# EAGLE library part XC3SE-FT256 (library Xilinx)
Xilinx Spartan3E FPGA in an FT256 pacakge
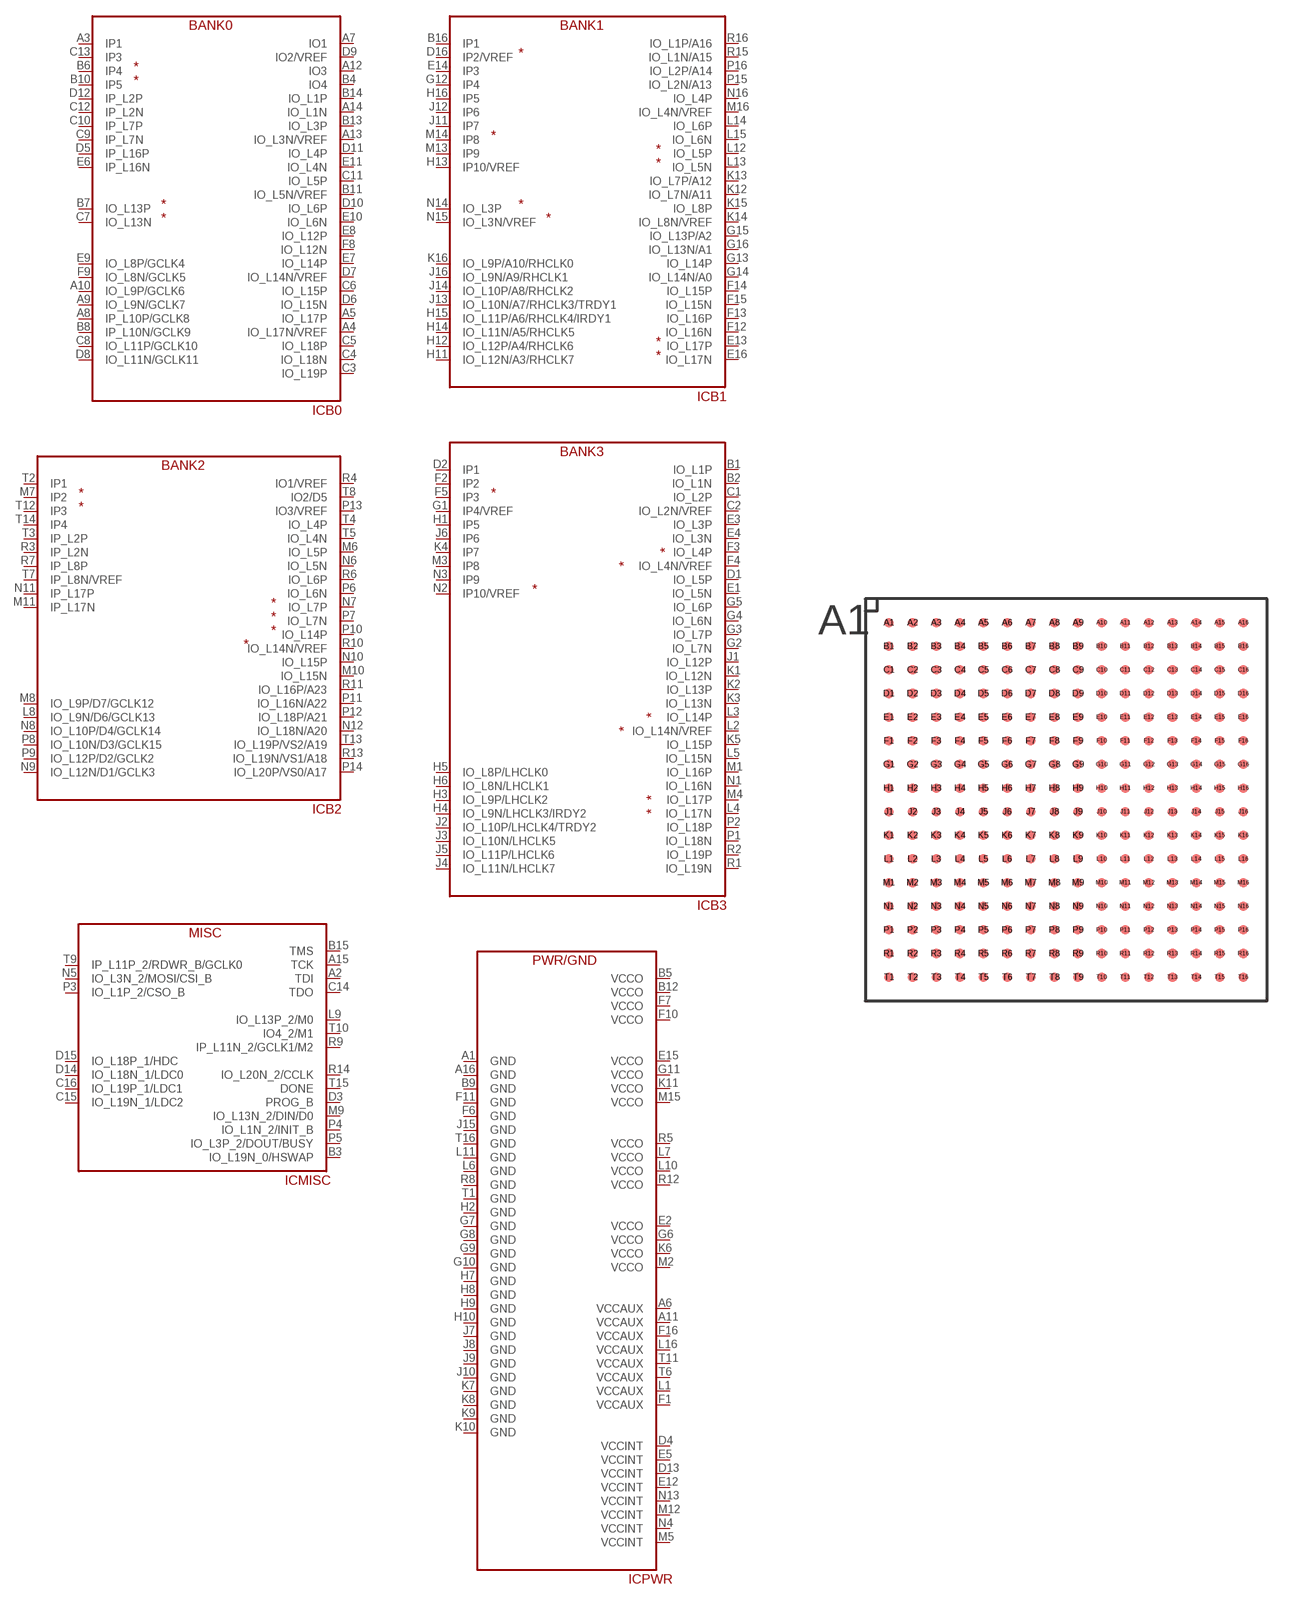
[diagram p45: symbol with the pads of FG256; footprint FG256]

Designator prefix IC; gates B0=XC3SE/FT256-B0 B1=XC3SE/FT256-B1 B2=XC3SE/FT256-B2 B3=XC3SE/FT256-B3 MISC=XC3SE/FT256-MISC PWR=XC3SE/FT256-PWR

## XC3SE-FT256  [FG256]
A1  PWR:GND  pwr
A2  MISC:TDI
A3  B0:IP1  in
A4  B0:IO_L17N/VREF
A5  B0:IO_L17P
A6  PWR:VCCAUX  pwr
A7  B0:IO1
A8  B0:IP_L10P/GCLK8  in
A9  B0:IO_L9N/GCLK7
A10  B0:IO_L9P/GCLK6
A11  PWR:VCCAUX  pwr
A12  B0:IO3
A13  B0:IO_L3N/VREF
A14  B0:IO_L1N
A15  MISC:TCK
A16  PWR:GND  pwr
B1  B3:IO_L1P
B2  B3:IO_L1N
B3  MISC:IO_L19N_0/HSWAP
B4  B0:IO4
B5  PWR:VCCO  pwr
B6  B0:IP4  in
B7  B0:IO_L13P
B8  B0:IP_L10N/GCLK9  in
B9  PWR:GND  pwr
B10  B0:IP5  in
B11  B0:IO_L5N/VREF
B12  PWR:VCCO  pwr
B13  B0:IO_L3P
B14  B0:IO_L1P
B15  MISC:TMS
B16  B1:IP1  in
C1  B3:IO_L2P
C2  B3:IO_L2N/VREF
C3  B0:IO_L19P
C4  B0:IO_L18N
C5  B0:IO_L18P
C6  B0:IO_L15P
C7  B0:IO_L13N
C8  B0:IO_L11P/GCLK10
C9  B0:IP_L7N  in
C10  B0:IP_L7P  in
C11  B0:IO_L5P
C12  B0:IP_L2N  in
C13  B0:IP3  in
C14  MISC:TDO
C15  MISC:IO_L19N_1/LDC2
C16  MISC:IO_L19P_1/LDC1
D1  B3:IO_L5P
D2  B3:IP1  in
D3  MISC:PROG_B
D4  PWR:VCCINT  pwr
D5  B0:IP_L16P  in
D6  B0:IO_L15N
D7  B0:IO_L14N/VREF
D8  B0:IO_L11N/GCLK11
D9  B0:IO2/VREF
D10  B0:IO_L6P
D11  B0:IO_L4P
D12  B0:IP_L2P  in
D13  PWR:VCCINT  pwr
D14  MISC:IO_L18N_1/LDC0
D15  MISC:IO_L18P_1/HDC
D16  B1:IP2/VREF  in
E1  B3:IO_L5N
E2  PWR:VCCO  pwr
E3  B3:IO_L3P
E4  B3:IO_L3N
E5  PWR:VCCINT  pwr
E6  B0:IP_L16N  in
E7  B0:IO_L14P
E8  B0:IO_L12P
E9  B0:IO_L8P/GCLK4
E10  B0:IO_L6N
E11  B0:IO_L4N
E12  PWR:VCCINT  pwr
E13  B1:IO_L17P
E14  B1:IP3  in
E15  PWR:VCCO  pwr
E16  B1:IO_L17N
F1  PWR:VCCAUX  pwr
F2  B3:IP2  in
F3  B3:IO_L4P
F4  B3:IO_L4N/VREF
F5  B3:IP3  in
F6  PWR:GND  pwr
F7  PWR:VCCO  pwr
F8  B0:IO_L12N
F9  B0:IO_L8N/GCLK5
F10  PWR:VCCO  pwr
F11  PWR:GND  pwr
F12  B1:IO_L16N
F13  B1:IO_L16P
F14  B1:IO_L15P
F15  B1:IO_L15N
F16  PWR:VCCAUX  pwr
G1  B3:IP4/VREF  in
G2  B3:IO_L7N
G3  B3:IO_L7P
G4  B3:IO_L6N
G5  B3:IO_L6P
G6  PWR:VCCO  pwr
G7  PWR:GND  pwr
G8  PWR:GND  pwr
G9  PWR:GND  pwr
G10  PWR:GND  pwr
G11  PWR:VCCO  pwr
G12  B1:IP4  in
G13  B1:IO_L14P
G14  B1:IO_L14N/A0
G15  B1:IO_L13P/A2
G16  B1:IO_L13N/A1
H1  B3:IP5  in
H2  PWR:GND  pwr
H3  B3:IO_L9P/LHCLK2
H4  B3:IO_L9N/LHCLK3/IRDY2
H5  B3:IO_L8P/LHCLK0
H6  B3:IO_L8N/LHCLK1
H7  PWR:GND  pwr
H8  PWR:GND  pwr
H9  PWR:GND  pwr
H10  PWR:GND  pwr
H11  B1:IO_L12N/A3/RHCLK7
H12  B1:IO_L12P/A4/RHCLK6
H13  B1:IP10/VREF
H14  B1:IO_L11N/A5/RHCLK5
H15  B1:IO_L11P/A6/RHCLK4/IRDY1
H16  B1:IP5  in
J1  B3:IO_L12P
J2  B3:IO_L10P/LHCLK4/TRDY2
J3  B3:IO_L10N/LHCLK5
J4  B3:IO_L11N/LHCLK7
J5  B3:IO_L11P/LHCLK6
J6  B3:IP6  in
J7  PWR:GND  pwr
J8  PWR:GND  pwr
J9  PWR:GND  pwr
J10  PWR:GND  pwr
J11  B1:IP7  in
J12  B1:IP6  in
J13  B1:IO_L10N/A7/RHCLK3/TRDY1
J14  B1:IO_L10P/A8/RHCLK2
J15  PWR:GND  pwr
J16  B1:IO_L9N/A9/RHCLK1
K1  B3:IO_L12N
K2  B3:IO_L13P
K3  B3:IO_L13N
K4  B3:IP7  in
K5  B3:IO_L15P
K6  PWR:VCCO  pwr
K7  PWR:GND  pwr
K8  PWR:GND  pwr
K9  PWR:GND  pwr
K10  PWR:GND  pwr
K11  PWR:VCCO  pwr
K12  B1:IO_L7N/A11
K13  B1:IO_L7P/A12
K14  B1:IO_L8N/VREF
K15  B1:IO_L8P
K16  B1:IO_L9P/A10/RHCLK0
L1  PWR:VCCAUX  pwr
L2  B3:IO_L14N/VREF
L3  B3:IO_L14P
L4  B3:IO_L17N
L5  B3:IO_L15N
L6  PWR:GND  pwr
L7  PWR:VCCO  pwr
L8  B2:IO_L9N/D6/GCLK13
L9  MISC:IO_L13P_2/M0
L10  PWR:VCCO  pwr
L11  PWR:GND  pwr
L12  B1:IO_L5P
L13  B1:IO_L5N
L14  B1:IO_L6P
L15  B1:IO_L6N
L16  PWR:VCCAUX  pwr
M1  B3:IO_L16P
M2  PWR:VCCO  pwr
M3  B3:IP8  in
M4  B3:IO_L17P
M5  PWR:VCCINT  pwr
M6  B2:IO_L5P
M7  B2:IP2  in
M8  B2:IO_L9P/D7/GCLK12
M9  MISC:IO_L13N_2/DIN/D0
M10  B2:IO_L15N
M11  B2:IP_L17N  in
M12  PWR:VCCINT  pwr
M13  B1:IP9
M14  B1:IP8
M15  PWR:VCCO  pwr
M16  B1:IO_L4N/VREF
N1  B3:IO_L16N
N2  B3:IP10/VREF  in
N3  B3:IP9  in
N4  PWR:VCCINT  pwr
N5  MISC:IO_L3N_2/MOSI/CSI_B
N6  B2:IO_L5N
N7  B2:IO_L7P
N8  B2:IO_L10P/D4/GCLK14
N9  B2:IO_L12N/D1/GCLK3
N10  B2:IO_L15P
N11  B2:IP_L17P  in
N12  B2:IO_L18N/A20
N13  PWR:VCCINT  pwr
N14  B1:IO_L3P
N15  B1:IO_L3N/VREF
N16  B1:IO_L4P
P1  B3:IO_L18N
P2  B3:IO_L18P
P3  MISC:IO_L1P_2/CSO_B
P4  MISC:IO_L1N_2/INIT_B
P5  MISC:IO_L3P_2/DOUT/BUSY
P6  B2:IO_L6N
P7  B2:IO_L7N
P8  B2:IO_L10N/D3/GCLK15
P9  B2:IO_L12P/D2/GCLK2
P10  B2:IO_L14P
P11  B2:IO_L16N/A22
P12  B2:IO_L18P/A21
P13  B2:IO3/VREF
P14  B2:IO_L20P/VS0/A17
P15  B1:IO_L2N/A13
P16  B1:IO_L2P/A14
R1  B3:IO_L19N
R2  B3:IO_L19P
R3  B2:IP_L2N  in
R4  B2:IO1/VREF
R5  PWR:VCCO  pwr
R6  B2:IO_L6P
R7  B2:IP_L8P  in
R8  PWR:GND  pwr
R9  MISC:IP_L11N_2/GCLK1/M2
R10  B2:IO_L14N/VREF
R11  B2:IO_L16P/A23
R12  PWR:VCCO  pwr
R13  B2:IO_L19N/VS1/A18
R14  MISC:IO_L20N_2/CCLK
R15  B1:IO_L1N/A15
R16  B1:IO_L1P/A16
T1  PWR:GND  pwr
T2  B2:IP1  in
T3  B2:IP_L2P  in
T4  B2:IO_L4P
T5  B2:IO_L4N
T6  PWR:VCCAUX  pwr
T7  B2:IP_L8N/VREF  in
T8  B2:IO2/D5
T9  MISC:IP_L11P_2/RDWR_B/GCLK0  in
T10  MISC:IO4_2/M1
T11  PWR:VCCAUX  pwr
T12  B2:IP3  in
T13  B2:IO_L19P/VS2/A19
T14  B2:IP4  in
T15  MISC:DONE
T16  PWR:GND  pwr

## Footprint FG256 (pad centres in mm)
Fine Pitch Ball Grid Array (FG256/FT256)
smd 0.4 x 0.4: A1 -7.5,7.5; A2 -6.5,7.5; A3 -5.5,7.5; A4 -4.5,7.5; A5 -3.5,7.5; A6 -2.5,7.5; A7 -1.5,7.5; A8 -0.5,7.5; A9 0.5,7.5; A10 1.5,7.5; A11 2.5,7.5; A12 3.5,7.5; A13 4.5,7.5; A14 5.5,7.5; A15 6.5,7.5; A16 7.5,7.5; B1 -7.5,6.5; B2 -6.5,6.5; B3 -5.5,6.5; B4 -4.5,6.5; B5 -3.5,6.5; B6 -2.5,6.5; B7 -1.5,6.5; B8 -0.5,6.5; B9 0.5,6.5; B10 1.5,6.5; B11 2.5,6.5; B12 3.5,6.5; B13 4.5,6.5; B14 5.5,6.5; B15 6.5,6.5; B16 7.5,6.5; C1 -7.5,5.5; C2 -6.5,5.5; C3 -5.5,5.5; C4 -4.5,5.5; C5 -3.5,5.5; C6 -2.5,5.5; C7 -1.5,5.5; C8 -0.5,5.5; C9 0.5,5.5; C10 1.5,5.5; C11 2.5,5.5; C12 3.5,5.5; C13 4.5,5.5; C14 5.5,5.5; C15 6.5,5.5; C16 7.5,5.5; D1 -7.5,4.5; D2 -6.5,4.5; D3 -5.5,4.5; D4 -4.5,4.5; D5 -3.5,4.5; D6 -2.5,4.5; D7 -1.5,4.5; D8 -0.5,4.5; D9 0.5,4.5; D10 1.5,4.5; D11 2.5,4.5; D12 3.5,4.5; D13 4.5,4.5; D14 5.5,4.5; D15 6.5,4.5; D16 7.5,4.5; E1 -7.5,3.5; E2 -6.5,3.5; E3 -5.5,3.5; E4 -4.5,3.5; E5 -3.5,3.5; E6 -2.5,3.5; E7 -1.5,3.5; E8 -0.5,3.5; E9 0.5,3.5; E10 1.5,3.5; E11 2.5,3.5; E12 3.5,3.5; E13 4.5,3.5; E14 5.5,3.5; E15 6.5,3.5; E16 7.5,3.5; F1 -7.5,2.5; F2 -6.5,2.5; F3 -5.5,2.5; F4 -4.5,2.5; F5 -3.5,2.5; F6 -2.5,2.5; F7 -1.5,2.5; F8 -0.5,2.5; F9 0.5,2.5; F10 1.5,2.5; F11 2.5,2.5; F12 3.5,2.5; F13 4.5,2.5; F14 5.5,2.5; F15 6.5,2.5; F16 7.5,2.5; G1 -7.5,1.5; G2 -6.5,1.5; G3 -5.5,1.5; G4 -4.5,1.5; G5 -3.5,1.5; G6 -2.5,1.5; G7 -1.5,1.5; G8 -0.5,1.5; G9 0.5,1.5; G10 1.5,1.5; G11 2.5,1.5; G12 3.5,1.5; G13 4.5,1.5; G14 5.5,1.5; G15 6.5,1.5; G16 7.5,1.5; H1 -7.5,0.5; H2 -6.5,0.5; H3 -5.5,0.5; H4 -4.5,0.5; H5 -3.5,0.5; H6 -2.5,0.5; H7 -1.5,0.5; H8 -0.5,0.5; H9 0.5,0.5; H10 1.5,0.5; H11 2.5,0.5; H12 3.5,0.5; H13 4.5,0.5; H14 5.5,0.5; H15 6.5,0.5; H16 7.5,0.5; J1 -7.5,-0.5; J2 -6.5,-0.5; J3 -5.5,-0.5; J4 -4.5,-0.5; J5 -3.5,-0.5; J6 -2.5,-0.5; J7 -1.5,-0.5; J8 -0.5,-0.5; J9 0.5,-0.5; J10 1.5,-0.5; J11 2.5,-0.5; J12 3.5,-0.5; J13 4.5,-0.5; J14 5.5,-0.5; J15 6.5,-0.5; J16 7.5,-0.5; K1 -7.5,-1.5; K2 -6.5,-1.5; K3 -5.5,-1.5; K4 -4.5,-1.5; K5 -3.5,-1.5; K6 -2.5,-1.5; K7 -1.5,-1.5; K8 -0.5,-1.5; K9 0.5,-1.5; K10 1.5,-1.5; K11 2.5,-1.5; K12 3.5,-1.5; K13 4.5,-1.5; K14 5.5,-1.5; K15 6.5,-1.5; K16 7.5,-1.5; L1 -7.5,-2.5; L2 -6.5,-2.5; L3 -5.5,-2.5; L4 -4.5,-2.5; L5 -3.5,-2.5; L6 -2.5,-2.5; L7 -1.5,-2.5; L8 -0.5,-2.5; L9 0.5,-2.5; L10 1.5,-2.5; L11 2.5,-2.5; L12 3.5,-2.5; L13 4.5,-2.5; L14 5.5,-2.5; L15 6.5,-2.5; L16 7.5,-2.5; M1 -7.5,-3.5; M2 -6.5,-3.5; M3 -5.5,-3.5; M4 -4.5,-3.5; M5 -3.5,-3.5; M6 -2.5,-3.5; M7 -1.5,-3.5; M8 -0.5,-3.5; M9 0.5,-3.5; M10 1.5,-3.5; M11 2.5,-3.5; M12 3.5,-3.5; M13 4.5,-3.5; M14 5.5,-3.5; M15 6.5,-3.5; M16 7.5,-3.5; N1 -7.5,-4.5; N2 -6.5,-4.5; N3 -5.5,-4.5; N4 -4.5,-4.5; N5 -3.5,-4.5; N6 -2.5,-4.5; N7 -1.5,-4.5; N8 -0.5,-4.5; N9 0.5,-4.5; N10 1.5,-4.5; N11 2.5,-4.5; N12 3.5,-4.5; N13 4.5,-4.5; N14 5.5,-4.5; N15 6.5,-4.5; N16 7.5,-4.5; P1 -7.5,-5.5; P2 -6.5,-5.5; P3 -5.5,-5.5; P4 -4.5,-5.5; P5 -3.5,-5.5; P6 -2.5,-5.5; P7 -1.5,-5.5; P8 -0.5,-5.5; P9 0.5,-5.5; P10 1.5,-5.5; P11 2.5,-5.5; P12 3.5,-5.5; P13 4.5,-5.5; P14 5.5,-5.5; P15 6.5,-5.5; P16 7.5,-5.5; R1 -7.5,-6.5; R2 -6.5,-6.5; R3 -5.5,-6.5; R4 -4.5,-6.5; R5 -3.5,-6.5; R6 -2.5,-6.5; R7 -1.5,-6.5; R8 -0.5,-6.5; R9 0.5,-6.5; R10 1.5,-6.5; R11 2.5,-6.5; R12 3.5,-6.5; R13 4.5,-6.5; R14 5.5,-6.5; R15 6.5,-6.5; R16 7.5,-6.5; T1 -7.5,-7.5; T2 -6.5,-7.5; T3 -5.5,-7.5; T4 -4.5,-7.5; T5 -3.5,-7.5; T6 -2.5,-7.5; T7 -1.5,-7.5; T8 -0.5,-7.5; T9 0.5,-7.5; T10 1.5,-7.5; T11 2.5,-7.5; T12 3.5,-7.5; T13 4.5,-7.5; T14 5.5,-7.5; T15 6.5,-7.5; T16 7.5,-7.5